# Altium footprint library aiskylab-06Crystals.PcbLib: 41 footprints (part 3 of 3)
Each footprint in its own frame and in the unit in brackets; x right, y up, seen from the top. Pads: shape width x height; smd on the part's side, far side on the other; paste and mask are expansions set on the pad; w line width, h text height; cw(c..) or ccw(c..) is an arc to the next point about the centre after c.
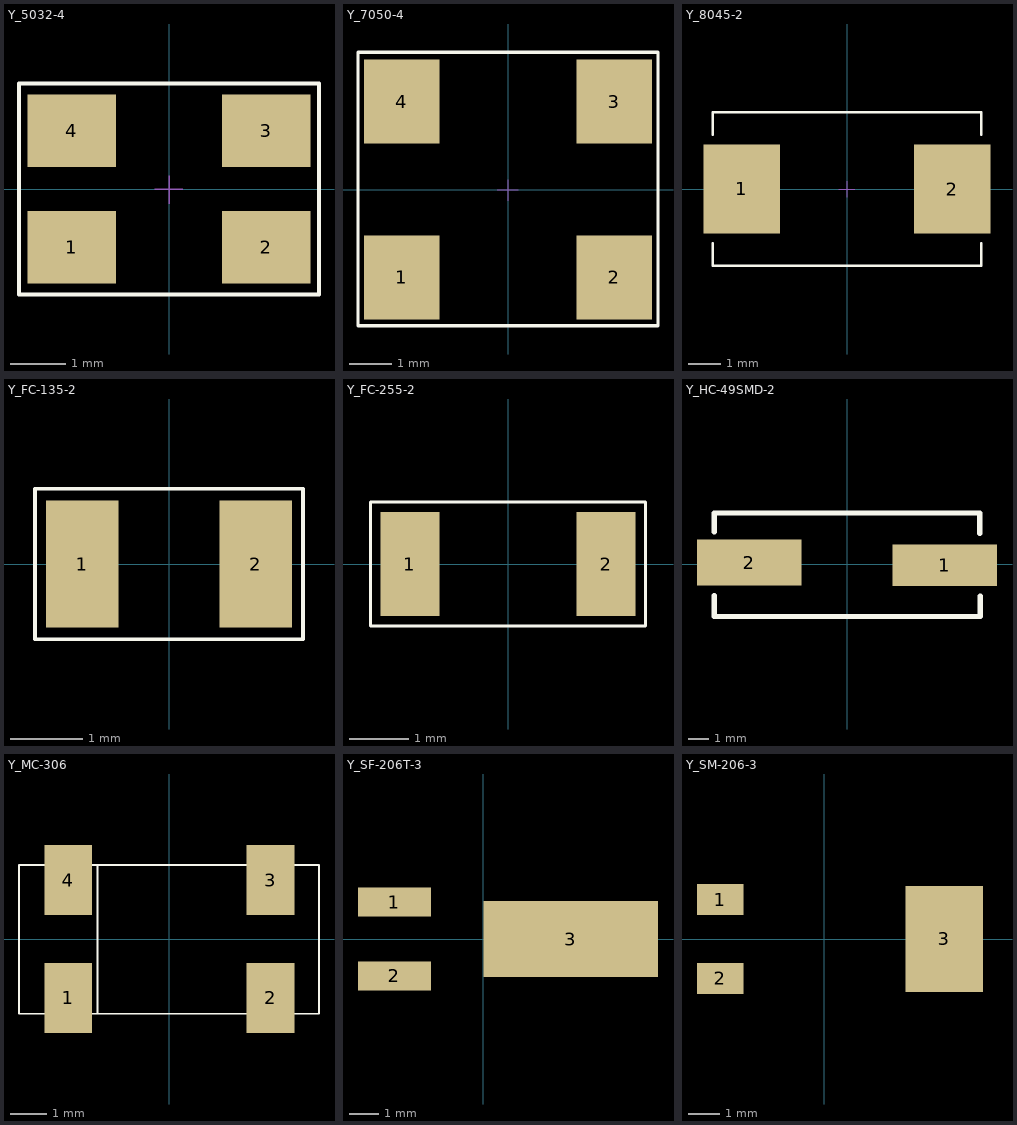
[diagram p2: the footprints below, top view; thin cyan lines are the x and y axes]

## Y_5032-4 [mm]
height 8.78
pads (4):
  rect 1.6x1.3 smd mask+0.051: 1(-1.75,-1.05) 2(1.75,-1.05) 3(1.75,1.05) 4(-1.75,1.05)
Top Overlay:
  lines w0.076: -2.7,-1.9 2.7,-1.9 2.7,1.9 -2.7,1.9 -2.7,-1.9
Top Designator:
  text ".Designator" at -7.618,-0.508 h1.52
Top 3D Body:
  lines w0.025: -0.259,0 0.249,0 ; 0,-0.264 0,0.236
3D body "p160-130.stp": height 0.02, standoff 0, extent -2.55,0.4 -0.95,1.7
3D body "p160-130.stp": height 0.02, standoff 0, extent -2.55,-1.7 -0.95,-0.4
3D body "p160-130.stp": height 0.02, standoff 0, extent 0.95,0.4 2.55,1.7
3D body "p160-130.stp": height 0.02, standoff 0, extent 0.95,-1.7 2.55,-0.4
3D body "y_5032-4.stp": height 0.7, standoff 0, extent -2.462,-1.55 2.438,1.55

## Y_7050-4 [mm]
height 8.78
pads (4):
  rect 1.8x2 smd mask+0.051: 1(-2.54,-2.1) 2(2.54,-2.1) 3(2.54,2.1) 4(-2.54,2.1)
Top Overlay:
  lines w0.076: -3.581,-3.251 3.581,-3.251 3.581,3.277 -3.581,3.277 -3.581,-3.251
Top Designator:
  text ".Designator" at -7.618,-0.495 h1.52
Top Component Center:
  lines w0.025: -0.259,0 0.249,0 ; 0,-0.264 0,0.236
3D body "y_7050-4.stp": height 1.6, standoff 0, extent -3.505,-2.515 3.495,2.486
3D body "p200-180.stp": height 0.02, standoff 0, extent -3.44,-3.1 -1.64,-1.1
3D body "p200-180.stp": height 0.02, standoff 0, extent -3.44,1.1 -1.64,3.1
3D body "p200-180.stp": height 0.02, standoff 0, extent 1.64,-3.1 3.44,-1.1
3D body "p200-180.stp": height 0.02, standoff 0, extent 1.64,1.1 3.44,3.1

## Y_8045-2 [mm]
height 8.78
pads (2):
  rect 2.4x2.8 smd mask+0.051: 1(-3.3,0) 2(3.3,0)
Top Overlay:
  lines w0.076: -4.2,-1.7 -4.2,-2.4 4.2,-2.4 4.2,-1.7 ; -4.2,1.7 -4.2,2.4 4.2,2.4 4.2,1.7
Top Designator:
  text ".Designator" at -7.617,-0.508 h1.52
Top Component Center:
  lines w0.025: -0.259,0 0.249,0 ; 0,-0.264 0,0.236
3D body "y_8045-2.stp": height 1.8, standoff 0, extent -3.988,-2.26 4.012,2.24
3D body "p270-250.stp": height 0.02, standoff 0, extent -4.552,-1.35 -2.052,1.35
3D body "p270-250.stp": height 0.02, standoff 0, extent 2.052,-1.35 4.552,1.35

## Y_FC-135-2 [mm] "3215"
height 8.78
pads (2):
  rect 1x1.75 smd: 1(-1.2,0) 2(1.2,0)
Top Overlay:
  lines w0.051: -1.854,-1.041 -1.854,1.041 1.854,1.041 1.854,-1.041 -1.854,-1.041
Top Designator:
  text ".Designator" at -7.618,-0.508 h1.52
3D body "Y_fc135-2.stp": height 0.71, standoff 0, extent -1.6,-0.787 1.6,0.793
3D body "p175-100.stp": height 0.02, standoff 0, extent -1.7,-0.875 -0.7,0.875
3D body "p175-100.stp": height 0.02, standoff 0, extent 0.7,-0.875 1.7,0.875

## Y_FC-255-2 [mm]
height 8.78
pads (2):
  rect 1x1.75 smd: 1(-1.65,0) 2(1.65,0)
Top Overlay:
  lines w0.051: -2.311,-1.041 -2.311,1.041 2.311,1.041 2.311,-1.041 -2.311,-1.041
Top Designator:
  text ".Designator" at -7.618,-0.508 h1.52
3D body "y_fc-225.stp": height 0.75, standoff 0, extent -2.057,-0.736 2.043,0.763
3D body "p175-100.stp": height 0.02, standoff 0, extent -2.151,-0.875 -1.151,0.875
3D body "p175-100.stp": height 0.02, standoff 0, extent 1.151,-0.875 2.151,0.875

## Y_HC-49SMD-2 [mm]
height 8.78
pads (2):
  rect 5x2 smd: 1(4.675,-0.062)
  rect 5x2.2 smd: 2(-4.675,0.062)
Top Overlay:
  lines w0.254: -6.35,-1.512 -6.35,-2.515 6.375,-2.515 6.375,-1.538 ; -6.35,1.536 -6.35,2.438 6.35,2.438 6.35,1.459
Top Designator:
  text ".Designator" at -7.618,-0.546 h1.52
3D body "hc-49smd.stp": height 4.3, standoff 0, extent -6.15,-2.286 6.15,2.214
3D body "p500-220.stp": height 0.02, standoff 0, extent -7.175,-1.037 -2.175,1.163
3D body "p500-220.stp": height 0.02, standoff 0, extent 2.175,-1.162 7.175,1.038

## Y_MC-306 [mm]
height 8.78
pads (4):
  rect 1.3x1.9 smd mask+0.051: 1(-2.75,-1.6) 2(2.75,-1.6) 3(2.75,1.6) 4(-2.75,1.6)
Top Overlay:
  lines w0.051: -1.956,-2.032 -1.956,2.007 ; -4.089,-2.032 -4.089,2.007 4.064,2.007 4.064,-2.032 -4.089,-2.032
Top Designator:
  text ".Designator" at -7.63,-0.508 h1.52
3D body "y_mc-306.stp": height 2.4, standoff 0, extent -4,-1.956 4,1.944
3D body "p190-130.stp": height 0.02, standoff 0, extent -3.4,0.65 -2.1,2.55
3D body "p190-130.stp": height 0.02, standoff 0, extent 2.1,0.65 3.4,2.55
3D body "p190-130.stp": height 0.02, standoff 0, extent -3.4,-2.55 -2.1,-0.65
3D body "p190-130.stp": height 0.02, standoff 0, extent 2.1,-2.55 3.4,-0.65

## Y_SF-206T-3 [mm]
height 8.78
pads (3):
  rect 2.5x1 smd mask+0.051: 1(-3.048,1.27) 2(-3.048,-1.27)
  rect 6x2.6 smd mask+0.051: 3(3.006,0)
Top Designator:
  text ".Designator" at -6.763,-0.508 h1.52
3D body "y_sf-206.stp": height 2, standoff 0, extent -3.836,-1.346 5.664,1.353
3D body "pxxx-xxx.stp": height 0.02, standoff 0, extent -4.318,-1.762 -1.818,-0.762
3D body "pxxx-xxx.stp": height 0.02, standoff 0, extent -4.318,0.762 -1.818,1.762
3D body "p600-260.stp": height 0.02, standoff 0, extent 0.007,-1.3 6.007,1.3

## Y_SM-206-3 [mm]
height 8.78
pads (3):
  rect 1.5x1 smd mask+0.051: 1(-3.35,1.27) 2(-3.35,-1.27)
  rect 2.5x3.4 smd mask+0.051: 3(3.85,0)
Top Designator:
  text ".Designator" at -7.118,-0.508 h1.52
3D body "p340-250.stp": height 0.02, standoff 0, extent 2.6,-1.7 5.1,1.7
3D body "p155-100.stp": height 0.02, standoff 0, extent -4.125,0.77 -2.575,1.77
3D body "p155-100.stp": height 0.02, standoff 0, extent -4.125,-1.77 -2.575,-0.77
3D body "y_sm-206.stp": height 2.11, standoff 0, extent -3.759,-1.296 4.941,1.404